# Altium integrated library AD9363.IntLib: 1 symbol
Pins are listed as number, name and electrical type; pins without a type are passive.

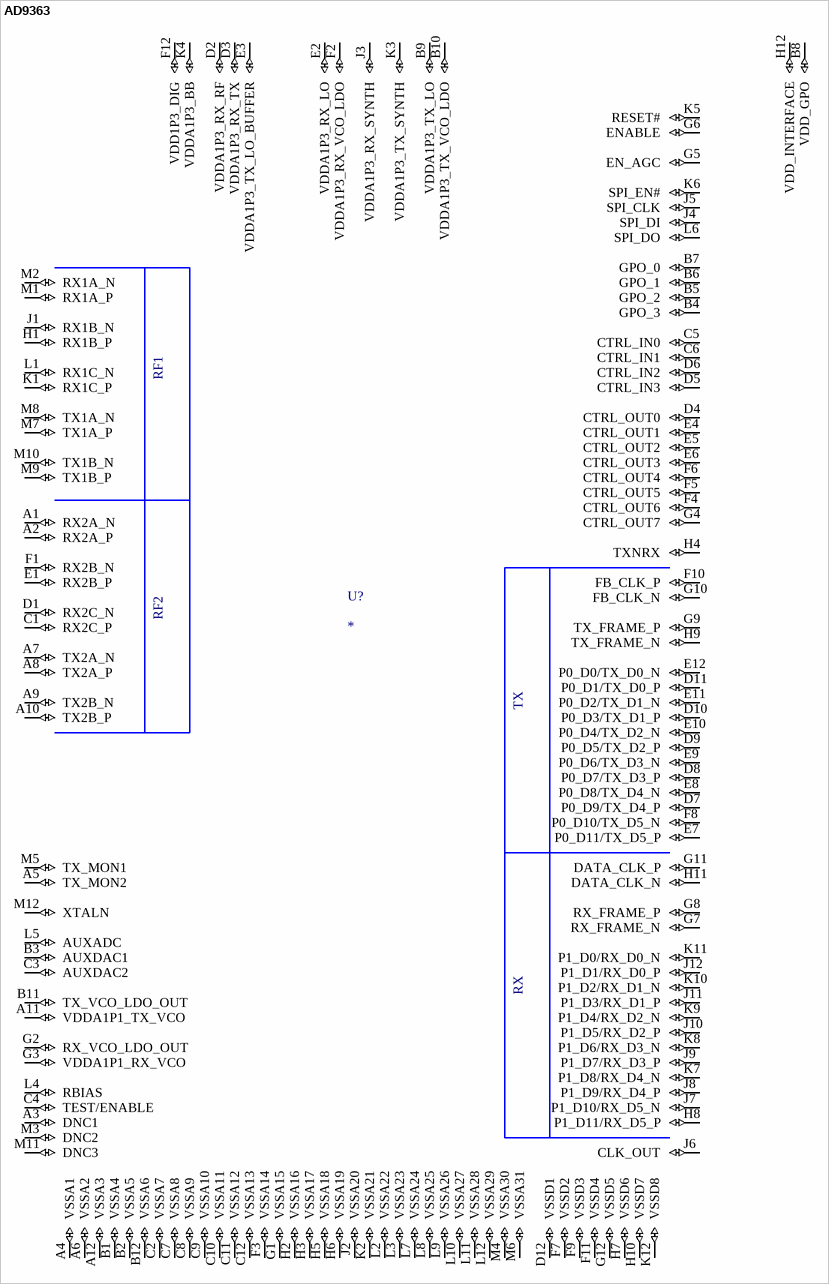
[diagram p0: symbol AD9363]

## AD9363
designator U?
IC RF TxRx Only - - 325MHz ~ 3.8GHz 144-LFBGA, CSPBGA; MF: Analog Devices; MP: AD9363; Package: None; Price: None; Value: *; SnapEDA_Link: https://www.snapeda.com/parts/AD9363/Analog+Devices/view-part/?ref=snap; Availability: In Stock; Check_prices: https://www.snapeda.com/parts/AD9363/Analog+Devices/view-part/?ref=eda
footprint BGA-144(10X10_P0.8)
pins: A1 RX2A_N (io), A2 RX2A_P (io), A3 DNC1 (io), A4 VSSA1 (io), A5 TX_MON2 (io), A6 VSSA2 (io), A7 TX2A_N (io), A8 TX2A_P (io), A9 TX2B_N (io), A10 TX2B_P (io), A11 VDDA1P1_TX_VCO (io), A12 VSSA3 (io), B1 VSSA4 (io), B2 VSSA5 (io), B3 AUXDAC1 (io), B4 GPO_3 (io), B5 GPO_2 (io), B6 GPO_1 (io), B7 GPO_0 (io), B8 VDD_GPO (io), B9 VDDA1P3_TX_LO (io), B10 VDDA1P3_TX_VCO_LDO (io), B11 TX_VCO_LDO_OUT (io), B12 VSSA6 (io), C1 RX2C_P (io), C2 VSSA7 (io), C3 AUXDAC2 (io), C4 TEST/ENABLE (io), C5 CTRL_IN0 (io), C6 CTRL_IN1 (io), C7 VSSA8 (io), C8 VSSA9 (io), C9 VSSA10 (io), C10 VSSA11 (io), C11 VSSA12 (io), C12 VSSA13 (io), D1 RX2C_N (io), D2 VDDA1P3_RX_RF (io), D3 VDDA1P3_RX_TX (io), D4 CTRL_OUT0 (io), D5 CTRL_IN3 (io), D6 CTRL_IN2 (io), D7 P0_D9/TX_D4_P (io), D8 P0_D7/TX_D3_P (io), D9 P0_D5/TX_D2_P (io), D10 P0_D3/TX_D1_P (io), D11 P0_D1/TX_D0_P (io), D12 VSSD1 (io), E1 RX2B_P (io), E2 VDDA1P3_RX_LO (io), E3 VDDA1P3_TX_LO_BUFFER (io), E4 CTRL_OUT1 (io), E5 CTRL_OUT2 (io), E6 CTRL_OUT3 (io), E7 P0_D11/TX_D5_P (io), E8 P0_D8/TX_D4_N (io), E9 P0_D6/TX_D3_N (io), E10 P0_D4/TX_D2_N (io), E11 P0_D2/TX_D1_N (io), E12 P0_D0/TX_D0_N (io), F1 RX2B_N (io), F2 VDDA1P3_RX_VCO_LDO (io), F3 VSSA14 (io), F4 CTRL_OUT6 (io), F5 CTRL_OUT5 (io), F6 CTRL_OUT4 (io), F7 VSSD2 (io), F8 P0_D10/TX_D5_N (io), F9 VSSD3 (io), F10 FB_CLK_P (io), F11 VSSD4 (io), F12 VDD1P3_DIG (io), G1 VSSA15 (io), G2 RX_VCO_LDO_OUT (io), G3 VDDA1P1_RX_VCO (io), G4 CTRL_OUT7 (io), G5 EN_AGC (io), G6 ENABLE (io), G7 RX_FRAME_N (io), G8 RX_FRAME_P (io), G9 TX_FRAME_P (io), G10 FB_CLK_N (io), G11 DATA_CLK_P (io), G12 VSSD5 (io), H1 RX1B_P (io), H2 VSSA16 (io), H3 VSSA17 (io), H4 TXNRX (io), H5 VSSA18 (io), H6 VSSA19 (io), H7 VSSD6 (io), H8 P1_D11/RX_D5_P (io), H9 TX_FRAME_N (io), H10 VSSD7 (io), H11 DATA_CLK_N (io), H12 VDD_INTERFACE (io), J1 RX1B_N (io), J2 VSSA20 (io), J3 VDDA1P3_RX_SYNTH (io), J4 SPI_DI (io), J5 SPI_CLK (io), J6 CLK_OUT (io), J7 P1_D10/RX_D5_N (io), J8 P1_D9/RX_D4_P (io), J9 P1_D7/RX_D3_P (io), J10 P1_D5/RX_D2_P (io), J11 P1_D3/RX_D1_P (io), J12 P1_D1/RX_D0_P (io), K1 RX1C_P (io), K2 VSSA21 (io), K3 VDDA1P3_TX_SYNTH (io), K4 VDDA1P3_BB (io), K5 RESET# (io), K6 SPI_EN# (io), K7 P1_D8/RX_D4_N (io), K8 P1_D6/RX_D3_N (io), K9 P1_D4/RX_D2_N (io), K10 P1_D2/RX_D1_N (io), K11 P1_D0/RX_D0_N (io), K12 VSSD8 (io), L1 RX1C_N (io), L2 VSSA22 (io), L3 VSSA23 (io), L4 RBIAS (io), L5 AUXADC (io), L6 SPI_DO (io), L7 VSSA24 (io), L8 VSSA25 (io), L9 VSSA26 (io), L10 VSSA27 (io), L11 VSSA28 (io), L12 VSSA29 (io), M1 RX1A_P (io), M2 RX1A_N (io), M3 DNC2 (io), M4 VSSA30 (io), M5 TX_MON1 (io), M6 VSSA31 (io), M7 TX1A_P (io), M8 TX1A_N (io), M9 TX1B_P (io), M10 TX1B_N (io), M11 DNC3 (io), M12 XTALN (io)
text: RF1; RF2; TX; RX